# Altium footprint library Connectors.PcbLib: 9 footprints
Each footprint in its own frame and in the unit in brackets; x right, y up, seen from the top. Pads: shape width x height; smd on the part's side, far side on the other; paste and mask are expansions set on the pad; w line width, h text height; cw(c..) or ccw(c..) is an arc to the next point about the centre after c.
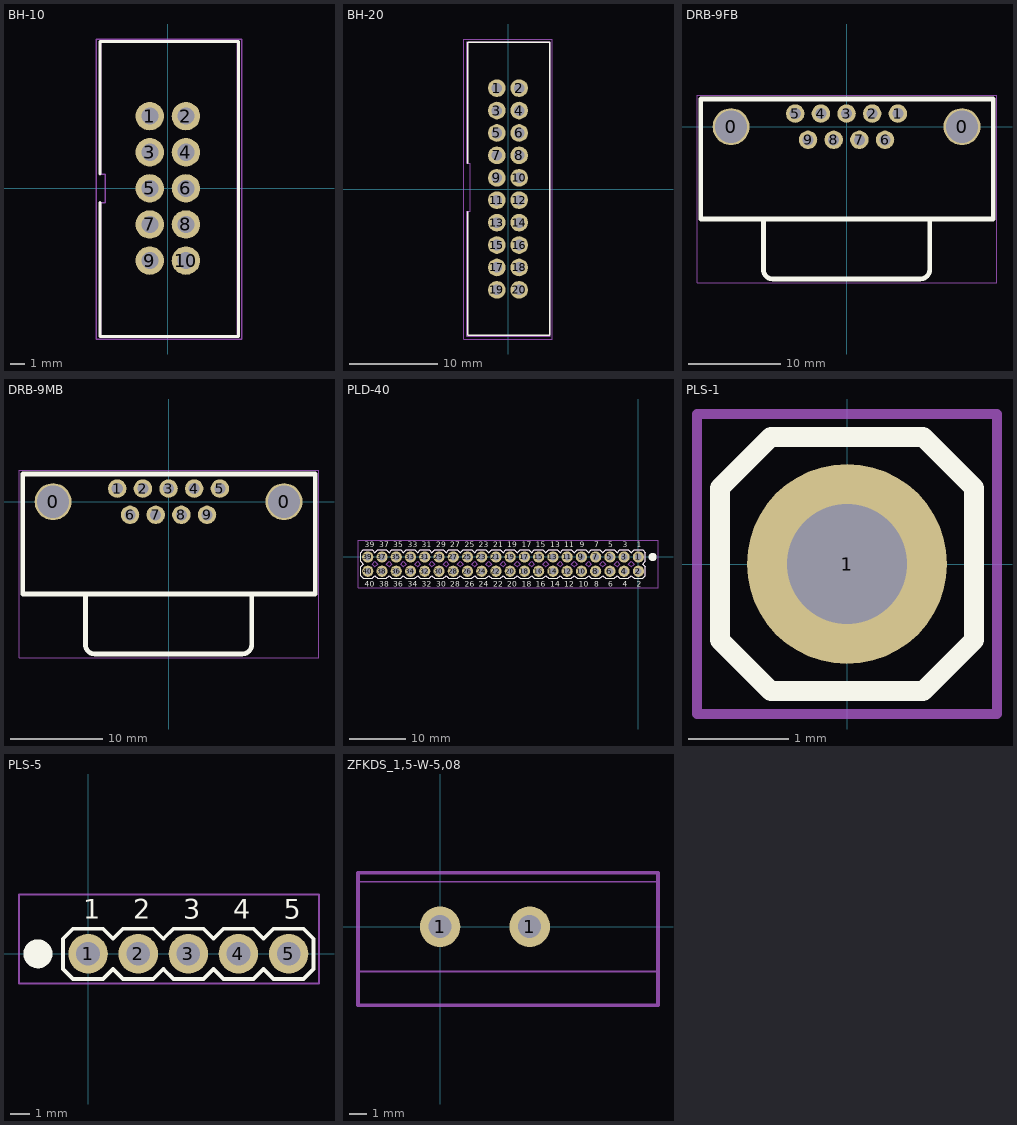
[diagram p0: the footprints below, top view; thin cyan lines are the x and y axes]

## BH-10 [mm] "IDC-10 Male Connector"
height 9
pads (10):
  round 2 hole 1.2: 1(-1.25,5.075) 2(1.29,5.075) 3(-1.25,2.535) 4(1.29,2.535) 5(-1.25,-0.005) 6(1.29,-0.005) 7(-1.25,-2.545) 8(1.29,-2.545) 9(-1.25,-5.085) 10(1.29,-5.085)
Top Overlay:
  lines w0.2: -4.75,-1 -4.75,-10.425 5,-10.425 5,10.325 -4.75,10.325 -4.75,1
Mechanical 14:
  lines w0.1: -4.7,-10.4 -4.7,-1 -4.4,-1 -4.4,1 -4.7,1 -4.7,10.3 4.9,10.3 4.9,-10.4 -4.7,-10.4 ; -1.62,-5.43 -0.92,-5.43 -0.92,-4.73 -1.62,-4.73 -1.62,-5.43 ; -1.62,-2.89 -0.92,-2.89 -0.92,-2.19 -1.62,-2.19 -1.62,-2.89 ; -1.62,-0.35 -0.92,-0.35 -0.92,0.35 -1.62,0.35 -1.62,-0.35 ; -1.62,2.19 -1.62,2.89 -0.92,2.89 -0.92,2.19 -1.62,2.19 ; -1.62,4.73 -0.92,4.73 -0.92,5.43 -1.62,5.43 -1.62,4.73 ; 0.92,-5.43 1.62,-5.43 1.62,-4.73 0.92,-4.73 0.92,-5.43 ; 0.92,-2.89 1.62,-2.89 1.62,-2.19 0.92,-2.19 0.92,-2.89 ; 0.92,-0.35 1.62,-0.35 1.62,0.35 0.92,0.35 0.92,-0.35 ; 0.92,2.19 0.92,2.89 1.62,2.89 1.62,2.19 0.92,2.19 ; 0.92,4.73 1.62,4.73 1.62,5.43 0.92,5.43 0.92,4.73
Mechanical 15:
  lines w0.1: -5,-10.6 -5,10.5 5.2,10.5 5.2,-10.6 -5,-10.6
3D body "User Library-BH-10__64BH-10.STEP": height 9.1, standoff -3, extent -4.53,-10.305 4.77,10.195

## BH-20 [mm] "IDC-20 Male Connector"
height 9
pads (20):
  round 2 hole 1.2: 1(-1.27,11.43) 2(1.27,11.43) 3(-1.27,8.89) 4(1.27,8.89) 5(-1.27,6.35) 6(1.27,6.35) 7(-1.27,3.81) 8(1.27,3.81) 9(-1.27,1.27) 10(1.27,1.27) 11(-1.27,-1.27) 12(1.27,-1.27) 13(-1.27,-3.81) 14(1.27,-3.81) 15(-1.27,-6.35) 16(1.27,-6.35) 17(-1.27,-8.89) 18(1.27,-8.89) 19(-1.27,-11.43) 20(1.27,-11.43)
Top Overlay:
  lines w0.2: -4.57,-2.57 -4.57,-16.57 4.73,-16.57 4.73,16.63 -4.57,16.63 -4.57,2.93
Mechanical 14:
  lines w0.1: -4.7,-16.7 -4.7,-2.5 -4.3,-2.5 -4.3,2.9 -4.7,2.9 -4.7,16.7 4.8,16.7 4.8,-16.7 -4.7,-16.7 ; -1.62,-11.78 -0.92,-11.78 -0.92,-11.08 -1.62,-11.08 -1.62,-11.78 ; -1.62,-9.24 -0.92,-9.24 -0.92,-8.54 -1.62,-8.54 -1.62,-9.24 ; -1.62,-6.7 -0.92,-6.7 -0.92,-6 -1.62,-6 -1.62,-6.7 ; -1.62,-4.16 -1.62,-3.46 -0.92,-3.46 -0.92,-4.16 -1.62,-4.16 ; -1.62,-1.62 -0.92,-1.62 -0.92,-0.92 -1.62,-0.92 -1.62,-1.62 ; -1.62,0.92 -0.92,0.92 -0.92,1.62 -1.62,1.62 -1.62,0.92 ; -1.62,3.46 -0.92,3.46 -0.92,4.16 -1.62,4.16 -1.62,3.46 ; -1.62,6 -0.92,6 -0.92,6.7 -1.62,6.7 -1.62,6 ; -1.62,8.54 -1.62,9.24 -0.92,9.24 -0.92,8.54 -1.62,8.54 ; -1.62,11.08 -0.92,11.08 -0.92,11.78 -1.62,11.78 -1.62,11.08 ; 0.92,-11.78 1.62,-11.78 1.62,-11.08 0.92,-11.08 0.92,-11.78 ; 0.92,-9.24 1.62,-9.24 1.62,-8.54 0.92,-8.54 0.92,-9.24 ; 0.92,-6.7 1.62,-6.7 1.62,-6 0.92,-6 0.92,-6.7 ; 0.92,-4.16 0.92,-3.46 1.62,-3.46 1.62,-4.16 0.92,-4.16 ; 0.92,-1.62 1.62,-1.62 1.62,-0.92 0.92,-0.92 0.92,-1.62 ; 0.92,0.92 1.62,0.92 1.62,1.62 0.92,1.62 0.92,0.92 ; 0.92,3.46 1.62,3.46 1.62,4.16 0.92,4.16 0.92,3.46 ; 0.92,6 1.62,6 1.62,6.7 0.92,6.7 0.92,6 ; 0.92,8.54 0.92,9.24 1.62,9.24 1.62,8.54 0.92,8.54 ; 0.92,11.08 1.62,11.08 1.62,11.78 0.92,11.78 0.92,11.08
Mechanical 15:
  lines w0.1: -5,-17 5,-17 5,17 -5,17 -5,-17
3D body "User Library-BH-10__64BH-20.STEP": height 9.1, standoff -3, extent -4.57,-16.57 4.73,16.63

## DRB-9FB [mm]
height 12.5
pads (11):
  round 4 hole 3.5: 0(-12.51,0) 0(12.51,0)
  round 2 hole 1.2: 1(5.56,1.42) 2(2.78,1.42) 3(0,1.42) 4(-2.78,1.42) 5(-5.56,1.42) 6(4.17,-1.42) 7(1.39,-1.42) 8(-1.39,-1.42) 9(-4.17,-1.42)
Top Overlay:
  lines w0.508: -9,-10 -9,-15.5 ccw(c-8,-15.5) -8,-16.5 8,-16.5 ccw(c8,-15.5) 9,-15.5 9,-10 ; 15.89,3 15.89,-10 -15.79,-10 -15.79,3 15.9,3
Mechanical 15:
  lines w0.1: -16.2,-16.9 16.3,-16.9 16.3,3.4 -16.2,3.4 -16.2,-16.9
3D body "SW3dPS-Connector DB-9-m PCB.STEP": height 12.42, standoff 0, extent -15.5,-16.536 15.6,2.75

## DRB-9MB [mm]
height 12.5
pads (11):
  round 4 hole 3.5: 0(-12.51,0) 0(12.51,0)
  round 2 hole 1.2: 1(-5.56,1.42) 2(-2.78,1.42) 3(0,1.42) 4(2.78,1.42) 5(5.56,1.42) 6(-4.17,-1.42) 7(-1.39,-1.42) 8(1.39,-1.42) 9(4.17,-1.42)
Top Overlay:
  lines w0.508: -9,-10 -9,-15.5 ccw(c-8,-15.5) -8,-16.5 8,-16.5 ccw(c8,-15.5) 9,-15.5 9,-10 ; 15.89,3 15.89,-10 -15.79,-10 -15.79,3 15.9,3
Mechanical 15:
  lines w0.1: -16.2,-16.9 -16.2,3.4 16.3,3.4 16.3,-16.9 -16.2,-16.9
3D body "SW3dPS-Connector DB-9-m PCB.STEP": height 12.42, standoff 0, extent -15.5,-16.536 15.6,2.75

## PLD-40 [mm]
pads (40):
  round 2 hole 1.2: 1(0,0) 2(0,-2.54) 3(-2.54,0) 4(-2.54,-2.54) 5(-5.08,0) 6(-5.08,-2.54) 7(-7.62,0) 8(-7.62,-2.54) 9(-10.16,0) 10(-10.16,-2.54) 11(-12.7,0) 12(-12.7,-2.54) 13(-15.24,0) 14(-15.24,-2.54) 15(-17.78,0) 16(-17.78,-2.54) 17(-20.32,0) 18(-20.32,-2.54) 19(-22.86,0) 20(-22.86,-2.54) 21(-25.4,0) 22(-25.4,-2.54) 23(-27.94,0) 24(-27.94,-2.54) 25(-30.48,0) 26(-30.48,-2.54) 27(-33.02,0) 28(-33.02,-2.54) 29(-35.56,0) 30(-35.56,-2.54) 31(-38.1,0) 32(-38.1,-2.54) 33(-40.64,0) 34(-40.64,-2.54) 35(-43.18,0) 36(-43.18,-2.54) 37(-45.72,0) 38(-45.72,-2.54) 39(-48.26,0) 40(-48.26,-2.54)
Top Overlay:
  circle w0.75: c2.54,0 r0.359
  lines w0.2: -49.53,-3.302 -49.53,-1.778 -49.022,-1.27 -49.53,-0.762 -49.53,0.762 -49.022,1.27 -47.498,1.27 -46.99,0.762 -46.482,1.27 -44.958,1.27 -44.45,0.762 -43.942,1.27 -42.418,1.27 -41.91,0.762 -41.402,1.27 -39.878,1.27 -39.37,0.762 -38.862,1.27 -37.338,1.27 -36.83,0.762 -36.322,1.27 -34.798,1.27 -34.29,0.762 -33.782,1.27 -32.258,1.27 -31.75,0.762 -31.242,1.27 -29.718,1.27 -29.21,0.762 -28.702,1.27 -27.178,1.27 -26.67,0.762 -26.162,1.27 -24.638,1.27 -24.13,0.762 -23.622,1.27 -22.098,1.27 -21.59,0.762 -21.082,1.27 -19.558,1.27 -19.05,0.762 -18.542,1.27 -17.018,1.27 -16.51,0.762 -16.002,1.27 -14.478,1.27 -13.97,0.762 -13.462,1.27 -11.938,1.27 -11.43,0.762 -10.922,1.27 -9.398,1.27 -8.89,0.762 -8.382,1.27 -6.858,1.27 -6.35,0.762 -5.842,1.27 -4.318,1.27 -3.81,0.762 -3.302,1.27 -1.778,1.27 -1.27,0.762 -0.762,1.27 0.762,1.27 1.27,0.762 1.27,-0.762 0.762,-1.27 1.27,-1.778 1.27,-3.302 0.762,-3.81 -0.762,-3.81 -1.27,-3.302 -1.778,-3.81 -3.302,-3.81 -3.81,-3.302 -4.318,-3.81 -5.842,-3.81 -6.35,-3.302 -6.858,-3.81 -8.382,-3.81 -8.89,-3.302 -9.398,-3.81 -10.922,-3.81 -11.43,-3.302 -11.938,-3.81 -13.462,-3.81 -13.97,-3.302 -14.478,-3.81 -16.002,-3.81 -16.51,-3.302 -17.018,-3.81 -18.542,-3.81 -19.05,-3.302 -19.558,-3.81 -21.082,-3.81 -21.59,-3.302 -22.098,-3.81 -23.622,-3.81 -24.13,-3.302 -24.638,-3.81 -26.162,-3.81 -26.67,-3.302 -27.178,-3.81 -28.702,-3.81 -29.21,-3.302 -29.718,-3.81 -31.242,-3.81 -31.75,-3.302 -32.258,-3.81 -33.782,-3.81 -34.29,-3.302 -34.798,-3.81 -36.322,-3.81 -36.83,-3.302 -37.338,-3.81 -38.862,-3.81 -39.37,-3.302 -39.878,-3.81 -41.402,-3.81 -41.91,-3.302 -42.418,-3.81 -43.942,-3.81 -44.45,-3.302 -44.958,-3.81 -46.482,-3.81 -46.99,-3.302 -47.498,-3.81 -49.022,-3.81 -49.53,-3.302
  text "38" at -46.228,-5.334 h1
  text "34" at -41.148,-5.334 h1
  text "30" at -36.068,-5.334 h1
  text "26" at -30.988,-5.334 h1
  text "22" at -25.908,-5.334 h1
  text "18" at -20.828,-5.334 h1
  text "14" at -15.748,-5.334 h1
  text "10" at -10.668,-5.334 h1
  text "6" at -5.334,-5.334 h1
  text "2" at -0.254,-5.334 h1
  text "40" at -48.768,-5.334 h1
  text "36" at -43.688,-5.334 h1
  text "32" at -38.608,-5.334 h1
  text "28" at -33.528,-5.334 h1
  text "24" at -28.448,-5.334 h1
  text "20" at -23.368,-5.334 h1
  text "16" at -18.288,-5.334 h1
  text "12" at -13.208,-5.334 h1
  text "8" at -7.874,-5.334 h1
  text "4" at -2.794,-5.334 h1
  text "3" at -2.794,1.778 h1
  text "7" at -7.874,1.778 h1
  text "11" at -13.208,1.778 h1
  text "15" at -18.288,1.778 h1
  text "19" at -23.368,1.778 h1
  text "23" at -28.448,1.778 h1
  text "27" at -33.528,1.778 h1
  text "31" at -38.608,1.778 h1
  text "35" at -43.688,1.778 h1
  text "39" at -48.768,1.778 h1
  text "37" at -46.228,1.778 h1
  text "33" at -41.148,1.778 h1
  text "29" at -36.068,1.778 h1
  text "25" at -30.988,1.778 h1
  text "21" at -25.908,1.778 h1
  text "17" at -20.828,1.778 h1
  text "13" at -15.748,1.778 h1
  text "9" at -10.414,1.778 h1
  text "5" at -5.334,1.778 h1
  text "1" at -0.254,1.778 h1
Mechanical 14:
  drawing of 364 lines, arcs and shapes, not listed
Mechanical 15:
  lines w0.1: -50,-5.5 3.5,-5.5 3.5,3 -50,3 -50,-5.5
3D body "User Library-PLS-1.STEP": height 8.44, standoff -3, extent -46.99,-1.27 -44.45,1.27
3D body "User Library-PLS-1.STEP": height 8.44, standoff -3, extent -44.45,-3.81 -41.91,-1.27
3D body "User Library-PLS-1.STEP": height 8.44, standoff -3, extent -44.45,-1.27 -41.91,1.27
3D body "User Library-PLS-1.STEP": height 8.44, standoff -3, extent -41.91,-3.81 -39.37,-1.27
3D body "User Library-PLS-1.STEP": height 8.44, standoff -3, extent -41.91,-1.27 -39.37,1.27
3D body "User Library-PLS-1.STEP": height 8.44, standoff -3, extent -46.99,-3.81 -44.45,-1.27
3D body "User Library-PLS-1.STEP": height 8.44, standoff -3, extent -49.53,-3.81 -46.99,-1.27
3D body "User Library-PLS-1.STEP": height 8.44, standoff -3, extent -49.53,-1.27 -46.99,1.27
3D body "User Library-PLS-1.STEP": height 8.44, standoff -3, extent -36.83,-1.27 -34.29,1.27
3D body "User Library-PLS-1.STEP": height 8.44, standoff -3, extent -34.29,-3.81 -31.75,-1.27
3D body "User Library-PLS-1.STEP": height 8.44, standoff -3, extent -34.29,-1.27 -31.75,1.27
3D body "User Library-PLS-1.STEP": height 8.44, standoff -3, extent -31.75,-3.81 -29.21,-1.27
3D body "User Library-PLS-1.STEP": height 8.44, standoff -3, extent -31.75,-1.27 -29.21,1.27
3D body "User Library-PLS-1.STEP": height 8.44, standoff -3, extent -36.83,-3.81 -34.29,-1.27
3D body "User Library-PLS-1.STEP": height 8.44, standoff -3, extent -39.37,-3.81 -36.83,-1.27
3D body "User Library-PLS-1.STEP": height 8.44, standoff -3, extent -39.37,-1.27 -36.83,1.27
3D body "User Library-PLS-1.STEP": height 8.44, standoff -3, extent -26.67,-1.27 -24.13,1.27
3D body "User Library-PLS-1.STEP": height 8.44, standoff -3, extent -24.13,-3.81 -21.59,-1.27
3D body "User Library-PLS-1.STEP": height 8.44, standoff -3, extent -24.13,-1.27 -21.59,1.27
3D body "User Library-PLS-1.STEP": height 8.44, standoff -3, extent -21.59,-3.81 -19.05,-1.27
3D body "User Library-PLS-1.STEP": height 8.44, standoff -3, extent -21.59,-1.27 -19.05,1.27
3D body "User Library-PLS-1.STEP": height 8.44, standoff -3, extent -26.67,-3.81 -24.13,-1.27
3D body "User Library-PLS-1.STEP": height 8.44, standoff -3, extent -29.21,-3.81 -26.67,-1.27
3D body "User Library-PLS-1.STEP": height 8.44, standoff -3, extent -29.21,-1.27 -26.67,1.27
3D body "User Library-PLS-1.STEP": height 8.44, standoff -3, extent -16.51,-1.27 -13.97,1.27
3D body "User Library-PLS-1.STEP": height 8.44, standoff -3, extent -13.97,-3.81 -11.43,-1.27
3D body "User Library-PLS-1.STEP": height 8.44, standoff -3, extent -13.97,-1.27 -11.43,1.27
3D body "User Library-PLS-1.STEP": height 8.44, standoff -3, extent -11.43,-3.81 -8.89,-1.27
3D body "User Library-PLS-1.STEP": height 8.44, standoff -3, extent -11.43,-1.27 -8.89,1.27
3D body "User Library-PLS-1.STEP": height 8.44, standoff -3, extent -16.51,-3.81 -13.97,-1.27
3D body "User Library-PLS-1.STEP": height 8.44, standoff -3, extent -19.05,-3.81 -16.51,-1.27
3D body "User Library-PLS-1.STEP": height 8.44, standoff -3, extent -19.05,-1.27 -16.51,1.27
3D body "User Library-PLS-1.STEP": height 8.44, standoff -3, extent -8.89,-1.27 -6.35,1.27
3D body "User Library-PLS-1.STEP": height 8.44, standoff -3, extent -8.89,-3.81 -6.35,-1.27
3D body "User Library-PLS-1.STEP": height 8.44, standoff -3, extent -6.35,-3.81 -3.81,-1.27
3D body "User Library-PLS-1.STEP": height 8.44, standoff -3, extent -1.27,-1.27 1.27,1.27
3D body "User Library-PLS-1.STEP": height 8.44, standoff -3, extent -1.27,-3.81 1.27,-1.27
3D body "User Library-PLS-1.STEP": height 8.44, standoff -3, extent -3.81,-1.27 -1.27,1.27
3D body "User Library-PLS-1.STEP": height 8.44, standoff -3, extent -3.81,-3.81 -1.27,-1.27
3D body "User Library-PLS-1.STEP": height 8.44, standoff -3, extent -6.35,-1.27 -3.81,1.27

## PLS-1 [mm]
pads (1):
  round 2 hole 1.2: 1(0,0)
Top Overlay:
  lines w0.2: -1.27,-0.762 -0.762,-1.27 0.762,-1.27 1.27,-0.762 1.27,0.762 0.762,1.27 -0.762,1.27 -1.27,0.762 -1.27,-0.762
Mechanical 14:
  lines w0.1: -1.27,-0.762 -0.762,-1.27 0.762,-1.27 1.27,-0.762 1.27,0.762 0.762,1.27 -0.762,1.27 -1.27,0.762 -1.27,-0.762 ; -0.35,-0.35 -0.35,0.35 0.35,0.35 0.35,-0.35 -0.35,-0.35
Mechanical 15:
  lines w0.1: -1.5,-1.5 -1.5,1.5 1.5,1.5 1.5,-1.5 -1.5,-1.5
3D body "User Library-PLS-1.STEP": height 8.44, standoff -3, extent -1.27,-1.27 1.27,1.27

## PLS-5 [mm]
pads (5):
  round 2 hole 1.2: 1(0,0) 2(2.54,0) 3(5.08,0) 4(7.62,0) 5(10.16,0)
Top Overlay:
  circle w0.75: c-2.54,0 r0.359
  lines w0.2: -1.27,-0.762 -1.27,0.762 -0.762,1.27 0.762,1.27 1.27,0.762 1.778,1.27 3.302,1.27 3.81,0.762 4.318,1.27 5.842,1.27 6.35,0.762 6.858,1.27 8.382,1.27 8.89,0.762 9.398,1.27 10.922,1.27 11.43,0.762 11.43,-0.762 10.922,-1.27 9.398,-1.27 8.89,-0.762 8.382,-1.27 6.858,-1.27 6.35,-0.762 5.842,-1.27 4.318,-1.27 3.81,-0.762 3.302,-1.27 1.778,-1.27 1.27,-0.762 0.762,-1.27 -0.762,-1.27 -1.27,-0.762
  text "5" at 9.906,1.778 h1
  text "4" at 7.366,1.778 h1
  text "3" at 4.826,1.778 h1
  text "2" at 2.286,1.778 h1
  text "1" at -0.254,1.778 h1
Mechanical 14:
  lines w0.1: -1.27,-0.762 -0.762,-1.27 0.762,-1.27 1.27,-0.762 1.778,-1.27 3.302,-1.27 3.81,-0.762 4.318,-1.27 5.842,-1.27 6.35,-0.762 6.858,-1.27 8.382,-1.27 8.89,-0.762 9.398,-1.27 10.922,-1.27 11.43,-0.762 11.43,0.762 10.922,1.27 9.398,1.27 8.89,0.762 8.382,1.27 6.858,1.27 6.35,0.762 5.842,1.27 4.318,1.27 3.81,0.762 3.302,1.27 1.778,1.27 1.27,0.762 0.762,1.27 -0.762,1.27 -1.27,0.762 -1.27,-0.762 ; -0.35,-0.35 -0.35,0.35 0.35,0.35 0.35,-0.35 -0.35,-0.35 ; 2.19,-0.35 2.19,0.35 2.89,0.35 2.89,-0.35 2.19,-0.35 ; 4.73,-0.35 4.73,0.35 5.43,0.35 5.43,-0.35 4.73,-0.35 ; 7.27,-0.35 7.97,-0.35 7.97,0.35 7.27,0.35 7.27,-0.35 ; 9.81,-0.35 9.81,0.35 10.51,0.35 10.51,-0.35 9.81,-0.35
Mechanical 15:
  lines w0.1: -3.5,-1.5 -3.5,3 11.7,3 11.7,-1.5 -3.5,-1.5
3D body "User Library-PLS-1.STEP": height 8.44, standoff -3, extent -1.27,-1.27 1.27,1.27
3D body "User Library-PLS-1.STEP": height 8.44, standoff -3, extent 1.27,-1.27 3.81,1.27
3D body "User Library-PLS-1.STEP": height 8.44, standoff -3, extent 3.81,-1.27 6.35,1.27
3D body "User Library-PLS-1.STEP": height 8.44, standoff -3, extent 6.35,-1.27 8.89,1.27
3D body "User Library-PLS-1.STEP": height 8.44, standoff -3, extent 8.89,-1.27 11.43,1.27

## ZFKDS_1,5-W-5,08 [mm]
height 16
pads (2):
  round 2.3 hole 1.3: 1(0,0) 1(5.08,0)
Mechanical 14:
  lines w0.1: -4.65,-2.54 -4.65,2.54 12.35,2.54 12.35,-2.54 -4.65,-2.54
Mechanical 15:
  lines w0.2: -4.65,-4.445 12.35,-4.445 12.35,3.048 -4.65,3.048 -4.65,-4.445
3D body "ZFKDS 1,5-W-5,08.stp": height 16, standoff -3.5, extent -4.642,-4.34 12.358,3.04

## ZFKDSA_1,5-W-7,62 [mm]
height 15